# Altium integrated library Linear Technology PMIC-Switching Reg LTC1174-LTC3901.IntLib: 2647 symbols (part 151 of 310)
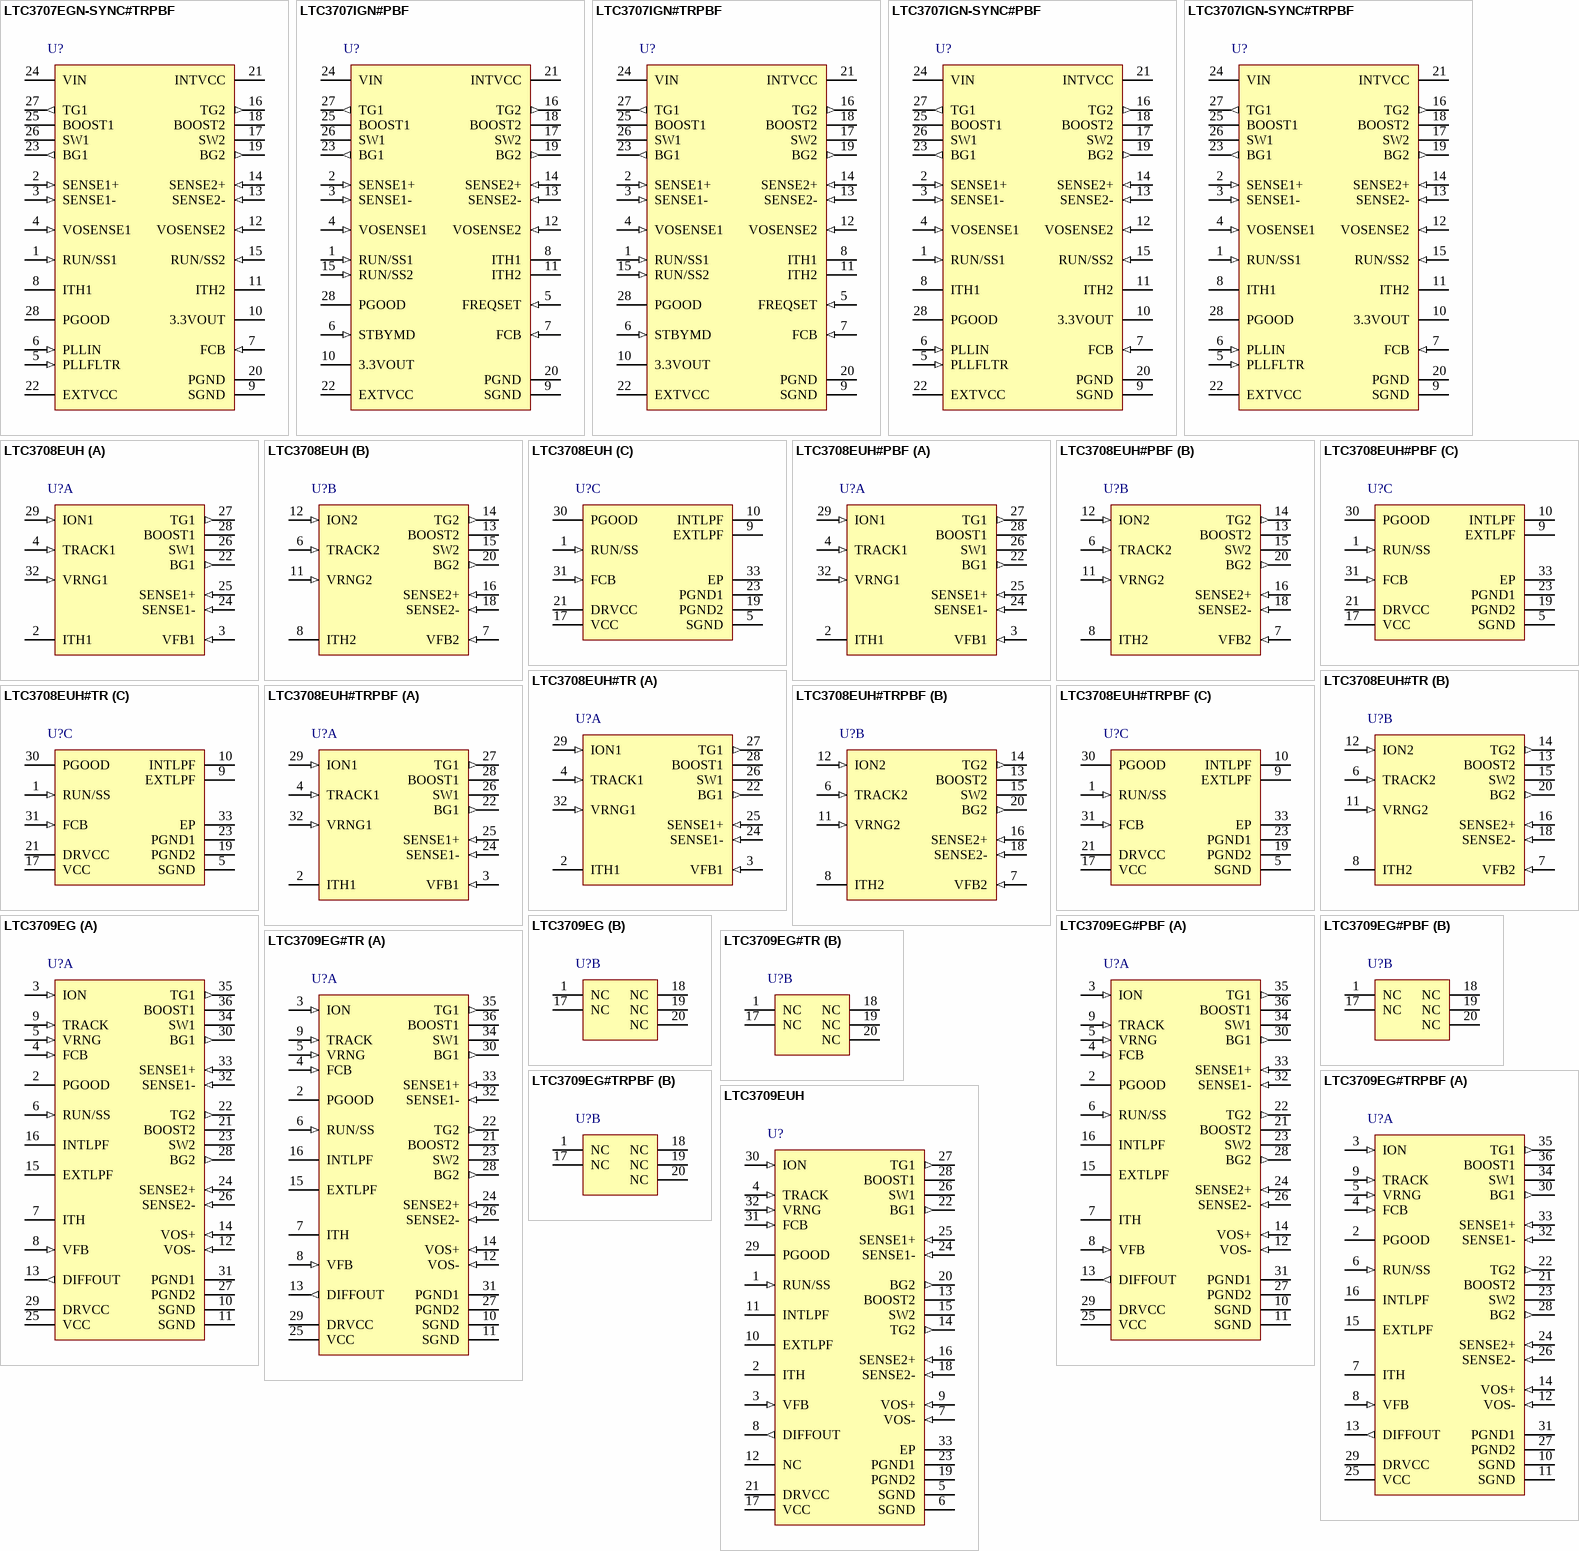
[diagram p201: symbols LTC3707EGN-SYNC#TRPBF to LTC3709EUH]

## LTC3708EUH#TR
designator U?
Fast 2-Phase, No Rsense Buck Controller with Output Tracking, 32-pin QFN (UH-32), -40 to 85 degC, Tape and Reel; Manufacturer: Linear Technology; PartNumber: LTC3708EUH#TR; Number of Outputs: 2; PackageReference: UH-32; PackageDescription: 32-Pin Plastic QFN, Body 5 x 5 mm, Pitch 0.5 mm; Supplier 1: Digi-Key; Supplier Part Number 1: LTC3708EUH#TR-ND; RoHS: FALSE; Code_JEDEC: MO-220
footprint LT-UH-32_N (QFN, 32-Leads, Body 5.1x5.1mm, Pitch 0.5mm, Thermal Pad 3.45X3.45mm, IPC Medium Density)
footprint LT-UH-32_L (QFN, 32-Leads, Body 5.1x5.1mm, Pitch 0.5mm, Thermal Pad 3.45X3.45mm, IPC High Density)
footprint LT-UH-32_M (QFN, 32-Leads, Body 5.1x5.1mm, Pitch 0.5mm, Thermal Pad 3.45X3.45mm, IPC Low Density)
part A pins: 2 ITH1 "Error Ampli?er Compensation Point and Current Control Threshold. The current comparator threshold increases with this control voltage. The voltage ranges from 0V to 2.4V with 0.8V corresponding to zero sense voltage (zer(See Datasheet)", 3 VFB1 (in) "Error Ampli?er Feedback Input. This pin connects the error ampli?er input to an external resistive divider from VOUT . Additional compensation can be implemented, if desired, using this pin.", 4 TRACK1 (in) "Tie TRACK2 pin to a resistive divider connected to the output of channel 1 for either coincident or ratiometric output tracking. TRACK1 is used in the same manner between multiple LTC3708s (see Applications Information). To (See Datasheet)", 22 BG1 (out) "Bottom Gate Drive. Drives the gate of the bottom N-channel MOSFET between ground and DRVCC.", 24 SENSE1- (in) "Current Sense Comparator Input. The (-) input to the current comparator is used to accurately Kelvin sense the bottom side of the sense resistor or MOSFET.", 25 SENSE1+ (in) "Current Sense Comparator Input. The (+) input to the current comparator is normally connected to the SW node unless using a sense resistor (See Applications Information).", 26 SW1 "Switch Node. The (-) terminal of the bootstrap capacitor CB connects here. This pin swings from a Schottky diode voltage drop below ground up to VIN.", 27 TG1 (out) "Top Gate Drive. Drives the top N-channel MOSFET with a voltage swing equal to DRVCC superimposed on the switch node voltage SW.", 28 BOOST1 "Boosted Floating Driver Supply. The (+) terminal of the bootstrap capacitor CB connects here. This pin swings from a diode voltage drop below DRVCC up to VIN + DRVCC.", 29 ION1 (in) "On-Time Current Input. Tie a resistor from VIN to this pin to set the one-shot timer current and thereby set the switching frequency.", 32 VRNG1 (in) "Sense Voltage Range Input. The voltage at this pin is ten times the nominal sense voltage at maximum output current and can be programmed from 0.5V to 2V. The sense voltage defaults to 70mV when this pin is tied to ground, (See Datasheet)"
part B pins: 6 TRACK2 (in) "Tie TRACK2 pin to a resistive divider connected to the output of channel 1 for either coincident or ratiometric output tracking. TRACK1 is used in the same manner between multiple LTC3708s (see Applications Information). To (See Datasheet)", 7 VFB2 (in) "Error Ampli?er Feedback Input. This pin connects the error ampli?er input to an external resistive divider from VOUT . Additional compensation can be implemented, if desired, using this pin.", 8 ITH2 "Error Ampli?er Compensation Point and Current Control Threshold. The current comparator threshold increases with this control voltage. The voltage ranges from 0V to 2.4V with 0.8V corresponding to zero sense voltage (zer(See Datasheet)", 11 VRNG2 (in) "Sense Voltage Range Input. The voltage at this pin is ten times the nominal sense voltage at maximum output current and can be programmed from 0.5V to 2V. The sense voltage defaults to 70mV when this pin is tied to ground, (See Datasheet)", 12 ION2 (in) "On-Time Current Input. Tie a resistor from VIN to this pin to set the one-shot timer current and thereby set the switching frequency.", 13 BOOST2 "Boosted Floating Driver Supply. The (+) terminal of the bootstrap capacitor CB connects here. This pin swings from a diode voltage drop below DRVCC up to VIN + DRVCC.", 14 TG2 (out) "Top Gate Drive. Drives the top N-channel MOSFET with a voltage swing equal to DRVCC superimposed on the switch node voltage SW.", 15 SW2 "Switch Node. The (-) terminal of the bootstrap capacitor CB connects here. This pin swings from a Schottky diode voltage drop below ground up to VIN.", 16 SENSE2+ (in) "Current Sense Comparator Input. The (+) input to the current comparator is normally connected to the SW node unless using a sense resistor (See Applications Information).", 18 SENSE2- (in) "Current Sense Comparator Input. The (-) input to the current comparator is used to accurately Kelvin sense the bottom side of the sense resistor or MOSFET.", 20 BG2 (out) "Bottom Gate Drive. Drives the gate of the bottom N-channel MOSFET between ground and DRVCC."
part C pins: 1 RUN/SS (in) "Run Control and Soft-Start Input. A capacitor to ground at this pin sets the ramp rate of the output voltage (approximately 0.5s/uF) and the time delay for overcurrent latchoff (see Applications Information). Forcing this (See Datasheet)", 5 SGND (power) "Signal Ground. All small-signal components and compensation components should connect to this ground and eventually connect to PGND at one point. The Exposed Pad of the LTC3708EUH must be soldered to the PCB.", 9 EXTLPF "Filter Connection for the External PLL. This PLL is used to synchronize the LTC3708 to an external clock. If external clock is not used, leave this pin floating.", 10 INTLPF "Filter Connection for the Internal PLL. This PLL is used to phase shift the second channel to the first channel by 180degrees.", 17 VCC (power) "Main Input Supply. Decouple this pin to SGND with an RC filter (10ohm, 1uF for example).", 19 PGND2 (power) "Power Ground. Connect this pin closely to the source of the bottom N-channel MOSFET, the (-) terminal of CDRVCC and the (-) terminal of CIN.", 21 DRVCC (power) "Driver Supply. Provides supply to the drivers for the bottom gates. Also used for charging the bootstrap capacitors.", 23 PGND1 (power) "Power Ground. Connect this pin closely to the source of the bottom N-channel MOSFET, the (-) terminal of CDRVCC and the (-) terminal of CIN.", 30 PGOOD (oc) "Power Good Output. Open-drain logic output that is pulled to ground when either or both output voltages are not within +/-10% of the regulation point. The output voltage must be out of regulation for at least 100us before (See Datasheet)", 31 FCB (in) "Forced Continuous and External Clock Input. Tie this pin to ground to force continuous synchronous operation or to VCC to enable discontinuous mode operation at light load. Feeding an external clock signal into this pin will (See Datasheet)", 33 EP (power) "Signal Ground. All small-signal components and compensation components should connect to this ground and eventually connect to PGND at one point. The Exposed Pad of the LTC3708EUH must be soldered to the PCB."

## LTC3708EUH#TRPBF
designator U?
Fast 2-Phase, No Rsense Buck Controller with Output Tracking, 32-pin QFN (UH-32), -40 to 85 degC, Pb-Free, Tape and Reel; Manufacturer: Linear Technology; PartNumber: LTC3708EUH#TRPBF; Number of Outputs: 2; PackageReference: UH-32; PackageDescription: 32-Pin Plastic QFN, Body 5 x 5 mm, Pitch 0.5 mm; Supplier 1: Digi-Key; Supplier Part Number 1: LTC3708EUH#TRPBF-ND; RoHS: TRUE; Code_JEDEC: MO-220
footprint LT-UH-32_N (QFN, 32-Leads, Body 5.1x5.1mm, Pitch 0.5mm, Thermal Pad 3.45X3.45mm, IPC Medium Density)
footprint LT-UH-32_L (QFN, 32-Leads, Body 5.1x5.1mm, Pitch 0.5mm, Thermal Pad 3.45X3.45mm, IPC High Density)
footprint LT-UH-32_M (QFN, 32-Leads, Body 5.1x5.1mm, Pitch 0.5mm, Thermal Pad 3.45X3.45mm, IPC Low Density)
part A pins: 2 ITH1 "Error Ampli?er Compensation Point and Current Control Threshold. The current comparator threshold increases with this control voltage. The voltage ranges from 0V to 2.4V with 0.8V corresponding to zero sense voltage (zer(See Datasheet)", 3 VFB1 (in) "Error Ampli?er Feedback Input. This pin connects the error ampli?er input to an external resistive divider from VOUT . Additional compensation can be implemented, if desired, using this pin.", 4 TRACK1 (in) "Tie TRACK2 pin to a resistive divider connected to the output of channel 1 for either coincident or ratiometric output tracking. TRACK1 is used in the same manner between multiple LTC3708s (see Applications Information). To (See Datasheet)", 22 BG1 (out) "Bottom Gate Drive. Drives the gate of the bottom N-channel MOSFET between ground and DRVCC.", 24 SENSE1- (in) "Current Sense Comparator Input. The (-) input to the current comparator is used to accurately Kelvin sense the bottom side of the sense resistor or MOSFET.", 25 SENSE1+ (in) "Current Sense Comparator Input. The (+) input to the current comparator is normally connected to the SW node unless using a sense resistor (See Applications Information).", 26 SW1 "Switch Node. The (-) terminal of the bootstrap capacitor CB connects here. This pin swings from a Schottky diode voltage drop below ground up to VIN.", 27 TG1 (out) "Top Gate Drive. Drives the top N-channel MOSFET with a voltage swing equal to DRVCC superimposed on the switch node voltage SW.", 28 BOOST1 "Boosted Floating Driver Supply. The (+) terminal of the bootstrap capacitor CB connects here. This pin swings from a diode voltage drop below DRVCC up to VIN + DRVCC.", 29 ION1 (in) "On-Time Current Input. Tie a resistor from VIN to this pin to set the one-shot timer current and thereby set the switching frequency.", 32 VRNG1 (in) "Sense Voltage Range Input. The voltage at this pin is ten times the nominal sense voltage at maximum output current and can be programmed from 0.5V to 2V. The sense voltage defaults to 70mV when this pin is tied to ground, (See Datasheet)"
part B pins: 6 TRACK2 (in) "Tie TRACK2 pin to a resistive divider connected to the output of channel 1 for either coincident or ratiometric output tracking. TRACK1 is used in the same manner between multiple LTC3708s (see Applications Information). To (See Datasheet)", 7 VFB2 (in) "Error Ampli?er Feedback Input. This pin connects the error ampli?er input to an external resistive divider from VOUT . Additional compensation can be implemented, if desired, using this pin.", 8 ITH2 "Error Ampli?er Compensation Point and Current Control Threshold. The current comparator threshold increases with this control voltage. The voltage ranges from 0V to 2.4V with 0.8V corresponding to zero sense voltage (zer(See Datasheet)", 11 VRNG2 (in) "Sense Voltage Range Input. The voltage at this pin is ten times the nominal sense voltage at maximum output current and can be programmed from 0.5V to 2V. The sense voltage defaults to 70mV when this pin is tied to ground, (See Datasheet)", 12 ION2 (in) "On-Time Current Input. Tie a resistor from VIN to this pin to set the one-shot timer current and thereby set the switching frequency.", 13 BOOST2 "Boosted Floating Driver Supply. The (+) terminal of the bootstrap capacitor CB connects here. This pin swings from a diode voltage drop below DRVCC up to VIN + DRVCC.", 14 TG2 (out) "Top Gate Drive. Drives the top N-channel MOSFET with a voltage swing equal to DRVCC superimposed on the switch node voltage SW.", 15 SW2 "Switch Node. The (-) terminal of the bootstrap capacitor CB connects here. This pin swings from a Schottky diode voltage drop below ground up to VIN.", 16 SENSE2+ (in) "Current Sense Comparator Input. The (+) input to the current comparator is normally connected to the SW node unless using a sense resistor (See Applications Information).", 18 SENSE2- (in) "Current Sense Comparator Input. The (-) input to the current comparator is used to accurately Kelvin sense the bottom side of the sense resistor or MOSFET.", 20 BG2 (out) "Bottom Gate Drive. Drives the gate of the bottom N-channel MOSFET between ground and DRVCC."
part C pins: 1 RUN/SS (in) "Run Control and Soft-Start Input. A capacitor to ground at this pin sets the ramp rate of the output voltage (approximately 0.5s/uF) and the time delay for overcurrent latchoff (see Applications Information). Forcing this (See Datasheet)", 5 SGND (power) "Signal Ground. All small-signal components and compensation components should connect to this ground and eventually connect to PGND at one point. The Exposed Pad of the LTC3708EUH must be soldered to the PCB.", 9 EXTLPF "Filter Connection for the External PLL. This PLL is used to synchronize the LTC3708 to an external clock. If external clock is not used, leave this pin floating.", 10 INTLPF "Filter Connection for the Internal PLL. This PLL is used to phase shift the second channel to the first channel by 180degrees.", 17 VCC (power) "Main Input Supply. Decouple this pin to SGND with an RC filter (10ohm, 1uF for example).", 19 PGND2 (power) "Power Ground. Connect this pin closely to the source of the bottom N-channel MOSFET, the (-) terminal of CDRVCC and the (-) terminal of CIN.", 21 DRVCC (power) "Driver Supply. Provides supply to the drivers for the bottom gates. Also used for charging the bootstrap capacitors.", 23 PGND1 (power) "Power Ground. Connect this pin closely to the source of the bottom N-channel MOSFET, the (-) terminal of CDRVCC and the (-) terminal of CIN.", 30 PGOOD (oc) "Power Good Output. Open-drain logic output that is pulled to ground when either or both output voltages are not within +/-10% of the regulation point. The output voltage must be out of regulation for at least 100us before (See Datasheet)", 31 FCB (in) "Forced Continuous and External Clock Input. Tie this pin to ground to force continuous synchronous operation or to VCC to enable discontinuous mode operation at light load. Feeding an external clock signal into this pin will (See Datasheet)", 33 EP (power) "Signal Ground. All small-signal components and compensation components should connect to this ground and eventually connect to PGND at one point. The Exposed Pad of the LTC3708EUH must be soldered to the PCB."

## LTC3709EG
designator U?
Fast 2-Phase, No Rsense Synchronous DC/DC Controller with Tracking / Sequencing, 36-pin SOP (G-36), -40 to 85 degC; Manufacturer: Linear Technology; PartNumber: LTC3709EG; Number of Outputs: 1; PackageReference: G-36; PackageDescription: 36-Pin Plastic SSOP, Body 12.8 x 5.3 mm, Pitch 0.65 mm; RoHS: FALSE
footprint LT-G-36_N (SOP, 36-Leads, Body 13.1x5.6mm, Pitch 0.65mm, IPC Medium Density)
footprint LT-G-36_L (SOP, 36-Leads, Body 13.1x5.6mm, Pitch 0.65mm, IPC High Density)
footprint LT-G-36_M (SOP, 36-Leads, Body 13.1x5.6mm, Pitch 0.65mm, IPC Low Density)
part A pins: 2 PGOOD (oc) "Power Good Output. Open-drain logic output that is pulled to ground when output voltage is not within +/-10% of the regulation point. The output voltage must be out of regulation for at least 100us before the power good (See Datasheet)", 3 ION (in) "On-Time Current Input. Tie a resistor from VIN to this pin to set the one-shot timer current and thereby set the switching frequency.", 4 FCB (in) "Forced Continuous and External Clock Input. Tie this pin to ground to force continuous synchronous operation or to VCC to enable discontinuous mode operation at light load. Feeding an external clock signal into this pin will (See Datasheet)", 5 VRNG (in) "Sense Voltage Range Input. The voltage at this pin is ten times the nominal sense voltage at maximum output current and can be programmed from 0.5V to 2V. The sense voltage defaults to 70mV when this pin is tied to ground, (See Datasheet)", 6 RUN/SS (in) "Run Control and Soft-Start Input. A capacitor to ground at this pin sets the ramp rate of the output voltage (approximately 0.5s/uF) and the time delay for overcurrent latch-off (see Applications Information). Forcing this (See Datasheet)", 7 ITH "Error Amplifier Compensation Point. The current comparator threshold increases with this control voltage. The voltage ranges from 0V to 2.4V with 0.8V corresponding to zero sense voltage (zero current).", 8 VFB (in) "Error Amplifier Feedback Input. This pin connects to the error amplifier input. It can be used to attach additional compensation components if desired.", 9 TRACK (in) "Tie the TRACK pin to a resistive divider connected to the output of another LTC3709 for either coincident or ratiometric output tracking (see Applications Information). To disable this feature, tie the pin to VCC. Do Not (See Datasheet)", 10 SGND (power) "Signal Ground. All small-signal components such as CSS and compensation components should connect to this ground and eventually connect to PGND at one point. The Exposed Pad of the QFN package must be soldered to PCB ground.", 11 SGND (power) "Signal Ground. All small-signal components such as CSS and compensation components should connect to this ground and eventually connect to PGND at one point. The Exposed Pad of the QFN package must be soldered to PCB ground.", 12 VOS- (in) "The (-) Input to the Differential Amplifer", 13 DIFFOUT (out) "The Output of the Differential Amplifier.", 14 VOS+ (in) "The (+) Input to the Differential Amplifier.", 15 EXTLPF "Filter Connection for the PLL. This PLL is used to synchronize the LTC3709 with an external clock.", 16 INTLPF "Filter Connection for the PLL. This PLL is use to phase shift the second channel to the first channel by 180degrees.", 21 BOOST2 "Boosted Floating Driver Supply. The (+) terminal of the bootstrap capacitor CB connects here. This pin swings from a diode voltage drop below DRVCC up to VIN + DRVCC.", 22 TG2 (out) "Top Gate Drive. Drives the top N-channel MOSFET with a voltage swing equal to DRVCC superimposed on the switch node voltage SW.", 23 SW2 "Switch Node. The (-) terminal of the bootstrap capacitor CB connects here. This pin swings from a Schottky diode voltage drop below ground up to VIN.", 24 SENSE2+ (in) "Current Sense Comparator Input. The (+) input to the current comparator is normally connected to the SW node unless using a sense resistor (see Applications Information).", 25 VCC (power) "Main Input Supply. Decouple this pin to SGND with an RC filter (1ohm, 0.1uF).", 26 SENSE2- (in) "Current Sense Comparator Input. The (-) input to the current comparator is used to accurately Kelvin sense the bottom side of the sense resistor or MOSFET.", 27 PGND2 (power) "Power Ground. Connect this pin closely to the source of the bottom Nchannel MOSFET, the (-) terminal of CDRVCC and the (-) terminal of CIN.", 28 BG2 (out) "Bottom Gate Drive. Drives the gate of the bottom N-channel MOSFET between ground and DRVCC.", 29 DRVCC (power) "Driver Supply. Provides supply to the driver for the bottom gate. Also used for charging the bootstrap capacitor.", 30 BG1 (out) "Bottom Gate Drive. Drives the gate of the bottom N-channel MOSFET between ground and DRVCC.", 31 PGND1 (power) "Power Ground. Connect this pin closely to the source of the bottom Nchannel MOSFET, the (-) terminal of CDRVCC and the (-) terminal of CIN.", 32 SENSE1- (in) "Current Sense Comparator Input. The (-) input to the current comparator is used to accurately Kelvin sense the bottom side of the sense resistor or MOSFET.", 33 SENSE1+ (in) "Current Sense Comparator Input. The (+) input to the current comparator is normally connected to the SW node unless using a sense resistor (see Applications Information).", 34 SW1 "Switch Node. The (-) terminal of the bootstrap capacitor CB connects here. This pin swings from a Schottky diode voltage drop below ground up to VIN.", 35 TG1 (out) "Top Gate Drive. Drives the top N-channel MOSFET with a voltage swing equal to DRVCC superimposed on the switch node voltage SW.", 36 BOOST1 "Boosted Floating Driver Supply. The (+) terminal of the bootstrap capacitor CB connects here. This pin swings from a diode voltage drop below DRVCC up to VIN + DRVCC."
part B pins: 1 NC, 17 NC "No Connect.", 18 NC "No Connect.", 19 NC "No Connect.", 20 NC "No Connect."

## LTC3709EG#PBF
designator U?
Fast 2-Phase, No Rsense Synchronous DC/DC Controller with Tracking / Sequencing, 36-pin SOP (G-36), -40 to 85 degC, Pb-Free; Manufacturer: Linear Technology; PartNumber: LTC3709EG#PBF; Number of Outputs: 1; PackageReference: G-36; PackageDescription: 36-Pin Plastic SSOP, Body 12.8 x 5.3 mm, Pitch 0.65 mm; Supplier 1: Digi-Key; Supplier Part Number 1: LTC3709EG#PBF-ND; RoHS: TRUE
footprint LT-G-36_N (SOP, 36-Leads, Body 13.1x5.6mm, Pitch 0.65mm, IPC Medium Density)
footprint LT-G-36_L (SOP, 36-Leads, Body 13.1x5.6mm, Pitch 0.65mm, IPC High Density)
footprint LT-G-36_M (SOP, 36-Leads, Body 13.1x5.6mm, Pitch 0.65mm, IPC Low Density)
part A pins: 2 PGOOD (oc) "Power Good Output. Open-drain logic output that is pulled to ground when output voltage is not within +/-10% of the regulation point. The output voltage must be out of regulation for at least 100us before the power good (See Datasheet)", 3 ION (in) "On-Time Current Input. Tie a resistor from VIN to this pin to set the one-shot timer current and thereby set the switching frequency.", 4 FCB (in) "Forced Continuous and External Clock Input. Tie this pin to ground to force continuous synchronous operation or to VCC to enable discontinuous mode operation at light load. Feeding an external clock signal into this pin will (See Datasheet)", 5 VRNG (in) "Sense Voltage Range Input. The voltage at this pin is ten times the nominal sense voltage at maximum output current and can be programmed from 0.5V to 2V. The sense voltage defaults to 70mV when this pin is tied to ground, (See Datasheet)", 6 RUN/SS (in) "Run Control and Soft-Start Input. A capacitor to ground at this pin sets the ramp rate of the output voltage (approximately 0.5s/uF) and the time delay for overcurrent latch-off (see Applications Information). Forcing this (See Datasheet)", 7 ITH "Error Amplifier Compensation Point. The current comparator threshold increases with this control voltage. The voltage ranges from 0V to 2.4V with 0.8V corresponding to zero sense voltage (zero current).", 8 VFB (in) "Error Amplifier Feedback Input. This pin connects to the error amplifier input. It can be used to attach additional compensation components if desired.", 9 TRACK (in) "Tie the TRACK pin to a resistive divider connected to the output of another LTC3709 for either coincident or ratiometric output tracking (see Applications Information). To disable this feature, tie the pin to VCC. Do Not (See Datasheet)", 10 SGND (power) "Signal Ground. All small-signal components such as CSS and compensation components should connect to this ground and eventually connect to PGND at one point. The Exposed Pad of the QFN package must be soldered to PCB ground.", 11 SGND (power) "Signal Ground. All small-signal components such as CSS and compensation components should connect to this ground and eventually connect to PGND at one point. The Exposed Pad of the QFN package must be soldered to PCB ground.", 12 VOS- (in) "The (-) Input to the Differential Amplifer", 13 DIFFOUT (out) "The Output of the Differential Amplifier.", 14 VOS+ (in) "The (+) Input to the Differential Amplifier.", 15 EXTLPF "Filter Connection for the PLL. This PLL is used to synchronize the LTC3709 with an external clock.", 16 INTLPF "Filter Connection for the PLL. This PLL is use to phase shift the second channel to the first channel by 180degrees.", 21 BOOST2 "Boosted Floating Driver Supply. The (+) terminal of the bootstrap capacitor CB connects here. This pin swings from a diode voltage drop below DRVCC up to VIN + DRVCC.", 22 TG2 (out) "Top Gate Drive. Drives the top N-channel MOSFET with a voltage swing equal to DRVCC superimposed on the switch node voltage SW.", 23 SW2 "Switch Node. The (-) terminal of the bootstrap capacitor CB connects here. This pin swings from a Schottky diode voltage drop below ground up to VIN.", 24 SENSE2+ (in) "Current Sense Comparator Input. The (+) input to the current comparator is normally connected to the SW node unless using a sense resistor (see Applications Information).", 25 VCC (power) "Main Input Supply. Decouple this pin to SGND with an RC filter (1ohm, 0.1uF).", 26 SENSE2- (in) "Current Sense Comparator Input. The (-) input to the current comparator is used to accurately Kelvin sense the bottom side of the sense resistor or MOSFET.", 27 PGND2 (power) "Power Ground. Connect this pin closely to the source of the bottom Nchannel MOSFET, the (-) terminal of CDRVCC and the (-) terminal of CIN.", 28 BG2 (out) "Bottom Gate Drive. Drives the gate of the bottom N-channel MOSFET between ground and DRVCC.", 29 DRVCC (power) "Driver Supply. Provides supply to the driver for the bottom gate. Also used for charging the bootstrap capacitor.", 30 BG1 (out) "Bottom Gate Drive. Drives the gate of the bottom N-channel MOSFET between ground and DRVCC.", 31 PGND1 (power) "Power Ground. Connect this pin closely to the source of the bottom Nchannel MOSFET, the (-) terminal of CDRVCC and the (-) terminal of CIN.", 32 SENSE1- (in) "Current Sense Comparator Input. The (-) input to the current comparator is used to accurately Kelvin sense the bottom side of the sense resistor or MOSFET.", 33 SENSE1+ (in) "Current Sense Comparator Input. The (+) input to the current comparator is normally connected to the SW node unless using a sense resistor (see Applications Information).", 34 SW1 "Switch Node. The (-) terminal of the bootstrap capacitor CB connects here. This pin swings from a Schottky diode voltage drop below ground up to VIN.", 35 TG1 (out) "Top Gate Drive. Drives the top N-channel MOSFET with a voltage swing equal to DRVCC superimposed on the switch node voltage SW.", 36 BOOST1 "Boosted Floating Driver Supply. The (+) terminal of the bootstrap capacitor CB connects here. This pin swings from a diode voltage drop below DRVCC up to VIN + DRVCC."
part B pins: 1 NC, 17 NC "No Connect.", 18 NC "No Connect.", 19 NC "No Connect.", 20 NC "No Connect."

## LTC3709EG#TR
designator U?
Fast 2-Phase, No Rsense Synchronous DC/DC Controller with Tracking / Sequencing, 36-pin SOP (G-36), -40 to 85 degC, Tape and Reel; Manufacturer: Linear Technology; PartNumber: LTC3709EG#TR; Number of Outputs: 1; PackageReference: G-36; PackageDescription: 36-Pin Plastic SSOP, Body 12.8 x 5.3 mm, Pitch 0.65 mm; RoHS: FALSE
footprint LT-G-36_N (SOP, 36-Leads, Body 13.1x5.6mm, Pitch 0.65mm, IPC Medium Density)
footprint LT-G-36_L (SOP, 36-Leads, Body 13.1x5.6mm, Pitch 0.65mm, IPC High Density)
footprint LT-G-36_M (SOP, 36-Leads, Body 13.1x5.6mm, Pitch 0.65mm, IPC Low Density)
part A pins: 2 PGOOD (oc) "Power Good Output. Open-drain logic output that is pulled to ground when output voltage is not within +/-10% of the regulation point. The output voltage must be out of regulation for at least 100us before the power good (See Datasheet)", 3 ION (in) "On-Time Current Input. Tie a resistor from VIN to this pin to set the one-shot timer current and thereby set the switching frequency.", 4 FCB (in) "Forced Continuous and External Clock Input. Tie this pin to ground to force continuous synchronous operation or to VCC to enable discontinuous mode operation at light load. Feeding an external clock signal into this pin will (See Datasheet)", 5 VRNG (in) "Sense Voltage Range Input. The voltage at this pin is ten times the nominal sense voltage at maximum output current and can be programmed from 0.5V to 2V. The sense voltage defaults to 70mV when this pin is tied to ground, (See Datasheet)", 6 RUN/SS (in) "Run Control and Soft-Start Input. A capacitor to ground at this pin sets the ramp rate of the output voltage (approximately 0.5s/uF) and the time delay for overcurrent latch-off (see Applications Information). Forcing this (See Datasheet)", 7 ITH "Error Amplifier Compensation Point. The current comparator threshold increases with this control voltage. The voltage ranges from 0V to 2.4V with 0.8V corresponding to zero sense voltage (zero current).", 8 VFB (in) "Error Amplifier Feedback Input. This pin connects to the error amplifier input. It can be used to attach additional compensation components if desired.", 9 TRACK (in) "Tie the TRACK pin to a resistive divider connected to the output of another LTC3709 for either coincident or ratiometric output tracking (see Applications Information). To disable this feature, tie the pin to VCC. Do Not (See Datasheet)", 10 SGND (power) "Signal Ground. All small-signal components such as CSS and compensation components should connect to this ground and eventually connect to PGND at one point. The Exposed Pad of the QFN package must be soldered to PCB ground.", 11 SGND (power) "Signal Ground. All small-signal components such as CSS and compensation components should connect to this ground and eventually connect to PGND at one point. The Exposed Pad of the QFN package must be soldered to PCB ground.", 12 VOS- (in) "The (-) Input to the Differential Amplifer", 13 DIFFOUT (out) "The Output of the Differential Amplifier.", 14 VOS+ (in) "The (+) Input to the Differential Amplifier.", 15 EXTLPF "Filter Connection for the PLL. This PLL is used to synchronize the LTC3709 with an external clock.", 16 INTLPF "Filter Connection for the PLL. This PLL is use to phase shift the second channel to the first channel by 180degrees.", 21 BOOST2 "Boosted Floating Driver Supply. The (+) terminal of the bootstrap capacitor CB connects here. This pin swings from a diode voltage drop below DRVCC up to VIN + DRVCC.", 22 TG2 (out) "Top Gate Drive. Drives the top N-channel MOSFET with a voltage swing equal to DRVCC superimposed on the switch node voltage SW.", 23 SW2 "Switch Node. The (-) terminal of the bootstrap capacitor CB connects here. This pin swings from a Schottky diode voltage drop below ground up to VIN.", 24 SENSE2+ (in) "Current Sense Comparator Input. The (+) input to the current comparator is normally connected to the SW node unless using a sense resistor (see Applications Information).", 25 VCC (power) "Main Input Supply. Decouple this pin to SGND with an RC filter (1ohm, 0.1uF).", 26 SENSE2- (in) "Current Sense Comparator Input. The (-) input to the current comparator is used to accurately Kelvin sense the bottom side of the sense resistor or MOSFET.", 27 PGND2 (power) "Power Ground. Connect this pin closely to the source of the bottom Nchannel MOSFET, the (-) terminal of CDRVCC and the (-) terminal of CIN.", 28 BG2 (out) "Bottom Gate Drive. Drives the gate of the bottom N-channel MOSFET between ground and DRVCC.", 29 DRVCC (power) "Driver Supply. Provides supply to the driver for the bottom gate. Also used for charging the bootstrap capacitor.", 30 BG1 (out) "Bottom Gate Drive. Drives the gate of the bottom N-channel MOSFET between ground and DRVCC.", 31 PGND1 (power) "Power Ground. Connect this pin closely to the source of the bottom Nchannel MOSFET, the (-) terminal of CDRVCC and the (-) terminal of CIN.", 32 SENSE1- (in) "Current Sense Comparator Input. The (-) input to the current comparator is used to accurately Kelvin sense the bottom side of the sense resistor or MOSFET.", 33 SENSE1+ (in) "Current Sense Comparator Input. The (+) input to the current comparator is normally connected to the SW node unless using a sense resistor (see Applications Information).", 34 SW1 "Switch Node. The (-) terminal of the bootstrap capacitor CB connects here. This pin swings from a Schottky diode voltage drop below ground up to VIN.", 35 TG1 (out) "Top Gate Drive. Drives the top N-channel MOSFET with a voltage swing equal to DRVCC superimposed on the switch node voltage SW.", 36 BOOST1 "Boosted Floating Driver Supply. The (+) terminal of the bootstrap capacitor CB connects here. This pin swings from a diode voltage drop below DRVCC up to VIN + DRVCC."
part B pins: 1 NC, 17 NC "No Connect.", 18 NC "No Connect.", 19 NC "No Connect.", 20 NC "No Connect."

## LTC3709EG#TRPBF
designator U?
Fast 2-Phase, No Rsense Synchronous DC/DC Controller with Tracking / Sequencing, 36-pin SOP (G-36), -40 to 85 degC, Pb-Free, Tape and Reel; Manufacturer: Linear Technology; PartNumber: LTC3709EG#TRPBF; Number of Outputs: 1; PackageReference: G-36; PackageDescription: 36-Pin Plastic SSOP, Body 12.8 x 5.3 mm, Pitch 0.65 mm; Supplier 1: Digi-Key; Supplier Part Number 1: LTC3709EG#TRPBF-ND; RoHS: TRUE
footprint LT-G-36_N (SOP, 36-Leads, Body 13.1x5.6mm, Pitch 0.65mm, IPC Medium Density)
footprint LT-G-36_L (SOP, 36-Leads, Body 13.1x5.6mm, Pitch 0.65mm, IPC High Density)
footprint LT-G-36_M (SOP, 36-Leads, Body 13.1x5.6mm, Pitch 0.65mm, IPC Low Density)
part A pins: 2 PGOOD (oc) "Power Good Output. Open-drain logic output that is pulled to ground when output voltage is not within +/-10% of the regulation point. The output voltage must be out of regulation for at least 100us before the power good (See Datasheet)", 3 ION (in) "On-Time Current Input. Tie a resistor from VIN to this pin to set the one-shot timer current and thereby set the switching frequency.", 4 FCB (in) "Forced Continuous and External Clock Input. Tie this pin to ground to force continuous synchronous operation or to VCC to enable discontinuous mode operation at light load. Feeding an external clock signal into this pin will (See Datasheet)", 5 VRNG (in) "Sense Voltage Range Input. The voltage at this pin is ten times the nominal sense voltage at maximum output current and can be programmed from 0.5V to 2V. The sense voltage defaults to 70mV when this pin is tied to ground, (See Datasheet)", 6 RUN/SS (in) "Run Control and Soft-Start Input. A capacitor to ground at this pin sets the ramp rate of the output voltage (approximately 0.5s/uF) and the time delay for overcurrent latch-off (see Applications Information). Forcing this (See Datasheet)", 7 ITH "Error Amplifier Compensation Point. The current comparator threshold increases with this control voltage. The voltage ranges from 0V to 2.4V with 0.8V corresponding to zero sense voltage (zero current).", 8 VFB (in) "Error Amplifier Feedback Input. This pin connects to the error amplifier input. It can be used to attach additional compensation components if desired.", 9 TRACK (in) "Tie the TRACK pin to a resistive divider connected to the output of another LTC3709 for either coincident or ratiometric output tracking (see Applications Information). To disable this feature, tie the pin to VCC. Do Not (See Datasheet)", 10 SGND (power) "Signal Ground. All small-signal components such as CSS and compensation components should connect to this ground and eventually connect to PGND at one point. The Exposed Pad of the QFN package must be soldered to PCB ground.", 11 SGND (power) "Signal Ground. All small-signal components such as CSS and compensation components should connect to this ground and eventually connect to PGND at one point. The Exposed Pad of the QFN package must be soldered to PCB ground.", 12 VOS- (in) "The (-) Input to the Differential Amplifer", 13 DIFFOUT (out) "The Output of the Differential Amplifier.", 14 VOS+ (in) "The (+) Input to the Differential Amplifier.", 15 EXTLPF "Filter Connection for the PLL. This PLL is used to synchronize the LTC3709 with an external clock.", 16 INTLPF "Filter Connection for the PLL. This PLL is use to phase shift the second channel to the first channel by 180degrees.", 21 BOOST2 "Boosted Floating Driver Supply. The (+) terminal of the bootstrap capacitor CB connects here. This pin swings from a diode voltage drop below DRVCC up to VIN + DRVCC.", 22 TG2 (out) "Top Gate Drive. Drives the top N-channel MOSFET with a voltage swing equal to DRVCC superimposed on the switch node voltage SW.", 23 SW2 "Switch Node. The (-) terminal of the bootstrap capacitor CB connects here. This pin swings from a Schottky diode voltage drop below ground up to VIN.", 24 SENSE2+ (in) "Current Sense Comparator Input. The (+) input to the current comparator is normally connected to the SW node unless using a sense resistor (see Applications Information).", 25 VCC (power) "Main Input Supply. Decouple this pin to SGND with an RC filter (1ohm, 0.1uF).", 26 SENSE2- (in) "Current Sense Comparator Input. The (-) input to the current comparator is used to accurately Kelvin sense the bottom side of the sense resistor or MOSFET.", 27 PGND2 (power) "Power Ground. Connect this pin closely to the source of the bottom Nchannel MOSFET, the (-) terminal of CDRVCC and the (-) terminal of CIN.", 28 BG2 (out) "Bottom Gate Drive. Drives the gate of the bottom N-channel MOSFET between ground and DRVCC.", 29 DRVCC (power) "Driver Supply. Provides supply to the driver for the bottom gate. Also used for charging the bootstrap capacitor.", 30 BG1 (out) "Bottom Gate Drive. Drives the gate of the bottom N-channel MOSFET between ground and DRVCC.", 31 PGND1 (power) "Power Ground. Connect this pin closely to the source of the bottom Nchannel MOSFET, the (-) terminal of CDRVCC and the (-) terminal of CIN.", 32 SENSE1- (in) "Current Sense Comparator Input. The (-) input to the current comparator is used to accurately Kelvin sense the bottom side of the sense resistor or MOSFET.", 33 SENSE1+ (in) "Current Sense Comparator Input. The (+) input to the current comparator is normally connected to the SW node unless using a sense resistor (see Applications Information).", 34 SW1 "Switch Node. The (-) terminal of the bootstrap capacitor CB connects here. This pin swings from a Schottky diode voltage drop below ground up to VIN.", 35 TG1 (out) "Top Gate Drive. Drives the top N-channel MOSFET with a voltage swing equal to DRVCC superimposed on the switch node voltage SW.", 36 BOOST1 "Boosted Floating Driver Supply. The (+) terminal of the bootstrap capacitor CB connects here. This pin swings from a diode voltage drop below DRVCC up to VIN + DRVCC."
part B pins: 1 NC, 17 NC "No Connect.", 18 NC "No Connect.", 19 NC "No Connect.", 20 NC "No Connect."

## LTC3709EUH
designator U?
Fast 2-Phase, No Rsense Synchronous DC/DC Controller with Tracking / Sequencing, 32-pin QFN (UH-32), -40 to 85 degC; Manufacturer: Linear Technology; PartNumber: LTC3709EUH; Number of Outputs: 1; PackageReference: UH-32; PackageDescription: 32-Pin Plastic QFN, Body 5 x 5 mm, Pitch 0.5 mm; RoHS: FALSE; Code_JEDEC: MO-220
footprint LT-UH-32_N (QFN, 32-Leads, Body 5.1x5.1mm, Pitch 0.5mm, Thermal Pad 3.45X3.45mm, IPC Medium Density)
footprint LT-UH-32_L (QFN, 32-Leads, Body 5.1x5.1mm, Pitch 0.5mm, Thermal Pad 3.45X3.45mm, IPC High Density)
footprint LT-UH-32_M (QFN, 32-Leads, Body 5.1x5.1mm, Pitch 0.5mm, Thermal Pad 3.45X3.45mm, IPC Low Density)
pins: 1 RUN/SS (in) "Run Control and Soft-Start Input. A capacitor to ground at this pin sets the ramp rate of the output voltage (approximately 0.5s/uF) and the time delay for overcurrent latch-off (see Applications Information). Forcing this (See Datasheet)", 2 ITH "Error Amplifier Compensation Point. The current comparator threshold increases with this control voltage. The voltage ranges from 0V to 2.4V with 0.8V corresponding to zero sense voltage (zero current).", 3 VFB (in) "Error Amplifier Feedback Input. This pin connects to the error amplifier input. It can be used to attach additional compensation components if desired.", 4 TRACK (in) "Tie the TRACK pin to a resistive divider connected to the output of another LTC3709 for either coincident or ratiometric output tracking (see Applications Information). To disable this feature, tie the pin to VCC. Do Not (See Datasheet)", 5 SGND (power) "Signal Ground. All small-signal components such as CSS and compensation components should connect to this ground and eventually connect to PGND at one point. The Exposed Pad of the QFN package must be soldered to PCB ground.", 6 SGND (power) "Signal Ground. All small-signal components such as CSS and compensation components should connect to this ground and eventually connect to PGND at one point. The Exposed Pad of the QFN package must be soldered to PCB ground.", 7 VOS- (in) "The (-) Input to the Differential Amplifer.", 8 DIFFOUT (out) "The Output of the Differential Amplifier.", 9 VOS+ (in) "The (+) Input to the Differential Amplifier.", 10 EXTLPF "Filter Connection for the PLL. This PLL is used to synchronize the LTC3709 with an external clock.", 11 INTLPF "Filter Connection for the PLL. This PLL is use to phase shift the second channel to the first channel by 180degrees.", 12 NC "No Connect.", 13 BOOST2 "Boosted Floating Driver Supply. The (+) terminal of the bootstrap capacitor CB connects here. This pin swings from a diode voltage drop below DRVCC up to VIN + DRVCC.", 14 TG2 (out) "Top Gate Drive. Drives the top N-channel MOSFET with a voltage swing equal to DRVCC superimposed on the switch node voltage SW.", 15 SW2 "Switch Node. The (-) terminal of the bootstrap capacitor CB connects here. This pin swings from a Schottky diode voltage drop below ground up to VIN.", 16 SENSE2+ (in) "Current Sense Comparator Input. The (+) input to the current comparator is normally connected to the SW node unless using a sense resistor (see Applications Information).", 17 VCC (power) "Main Input Supply. Decouple this pin to SGND with an RC filter (1ohm, 0.1uF).", 18 SENSE2- (in) "Current Sense Comparator Input. The (-) input to the current comparator is used to accurately Kelvin sense the bottom side of the sense resistor or MOSFET.", 19 PGND2 (power) "Power Ground. Connect this pin closely to the source of the bottom Nchannel MOSFET, the (-) terminal of CDRVCC and the (-) terminal of CIN.", 20 BG2 (out) "Bottom Gate Drive. Drives the gate of the bottom N-channel MOSFET between ground and DRVCC.", 21 DRVCC (power) "Driver Supply. Provides supply to the driver for the bottom gate. Also used for charging the bootstrap capacitor.", 22 BG1 (out) "Bottom Gate Drive. Drives the gate of the bottom N-channel MOSFET between ground and DRVCC.", 23 PGND1 (power) "Power Ground. Connect this pin closely to the source of the bottom Nchannel MOSFET, the (-) terminal of CDRVCC and the (-) terminal of CIN.", 24 SENSE1- (in) "Current Sense Comparator Input. The (-) input to the current comparator is used to accurately Kelvin sense the bottom side of the sense resistor or MOSFET.", 25 SENSE1+ (in) "Current Sense Comparator Input. The (+) input to the current comparator is normally connected to the SW node unless using a sense resistor (see Applications Information).", 26 SW1 "Switch Node. The (-) terminal of the bootstrap capacitor CB connects here. This pin swings from a Schottky diode voltage drop below ground up to VIN.", 27 TG1 (out) "Top Gate Drive. Drives the top N-channel MOSFET with a voltage swing equal to DRVCC superimposed on the switch node voltage SW.", 28 BOOST1 "Boosted Floating Driver Supply. The (+) terminal of the bootstrap capacitor CB connects here. This pin swings from a diode voltage drop below DRVCC up to VIN + DRVCC.", 29 PGOOD (oc) "Power Good Output. Open-drain logic output that is pulled to ground when output voltage is not within +/-10% of the regulation point. The output voltage must be out of regulation for at least 100us before the power good (See Datasheet)", 30 ION (in) "On-Time Current Input. Tie a resistor from VIN to this pin to set the one-shot timer current and thereby set the switching frequency.", 31 FCB (in) "Forced Continuous and External Clock Input. Tie this pin to ground to force continuous synchronous operation or to VCC to enable discontinuous mode operation at light load. Feeding an external clock signal into this pin will (See Datasheet)", 32 VRNG (in) "Sense Voltage Range Input. The voltage at this pin is ten times the nominal sense voltage at maximum output current and can be programmed from 0.5V to 2V. The sense voltage defaults to 70mV when this pin is tied to ground, (See Datasheet)", 33 EP (power) "Signal Ground. All small-signal components such as CSS and compensation components should connect to this ground and eventually connect to PGND at one point. The Exposed Pad of the QFN package must be soldered to PCB ground."

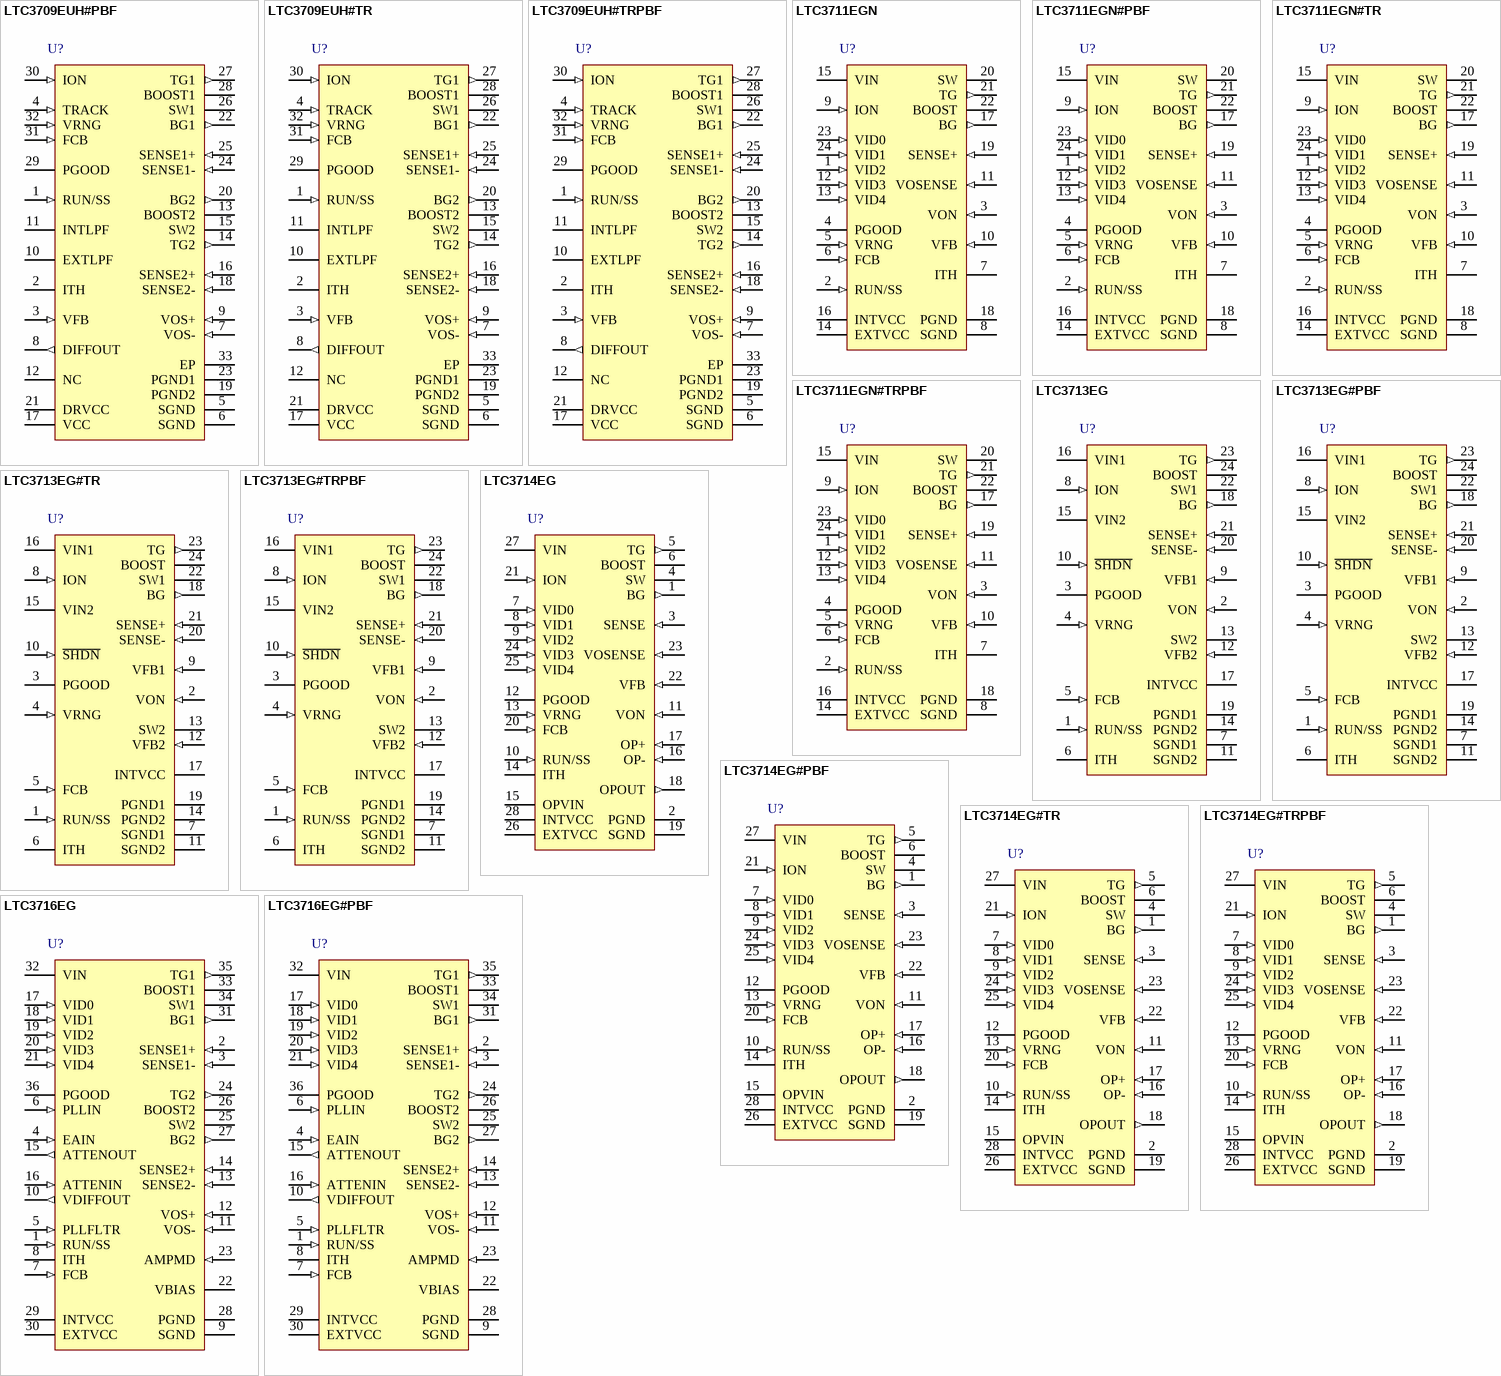
[diagram p54: symbols LTC3709EUH#PBF to LTC3716EG#PBF]